# Altium footprint library MOSFETIRF250.PcbLib: 1 footprints
Each footprint in its own frame and in the unit in brackets; x right, y up, seen from the top. Pads: shape width x height; smd on the part's side, far side on the other; paste and mask are expansions set on the pad; w line width, h text height; cw(c..) or ccw(c..) is an arc to the next point about the centre after c.
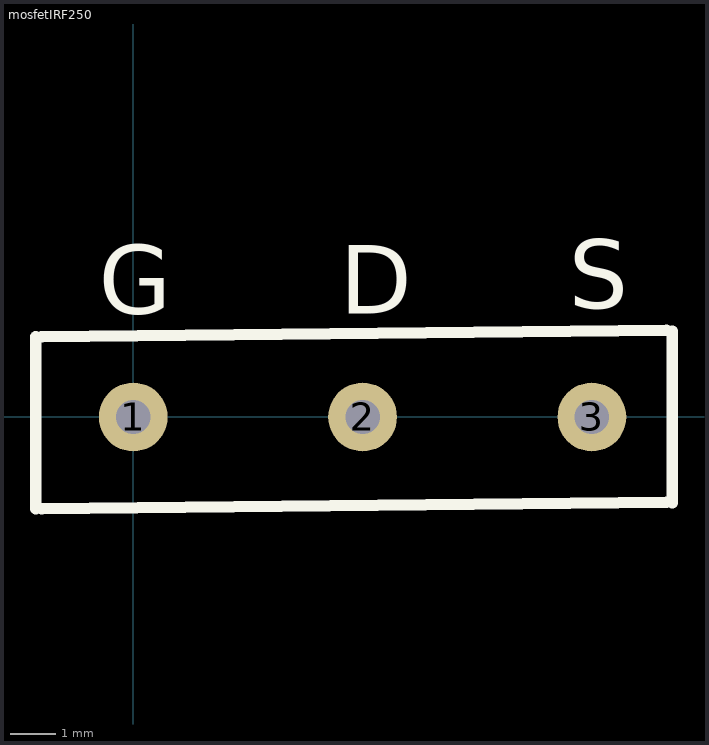
[diagram p0: the footprint, top view; thin cyan lines are the x and y axes]

## mosfetIRF250 [mil]
pads (3):
  round 60 hole 30: 1(0,0) 2(200,0) 3(400,0)
Top Overlay:
  lines w10: -85,-80 -85,70 ; -80,-80 465.05,-74.32 ; -80,70 465.05,75.68 ; 470,-75 470,75
  text "S" at 380,95 h60
  text "D" at 180,90 h60
  text "G" at -30,90 h60